# EAGLE library part TC2030_SWD (library tag-connect)
ARM20-CTX 20-Pin to TC2030-IDC Adapter for Cortex 6-Pin (TC2030-IDC family) </catalog/6> Cortex SWD </catalog/9> Adapters </adaptors> <javascript:void(0);> The Tag-Connect ARM20-CTX adapter board allows our TC2030-IDC cables to be used for ARM SWD (Single Wire Debug) applications. Although intended for use with our patented TC2030-IDC (and TC2030-IDC-NL) Plug-of-Nails™ Cables, the adapter may be useful to people wishing to use 6-pin 0.1” ribbon headers on their PCB instead of the traditional 20-Pin header. Please note the TC2030-IDC <http://tag-connect.com/TC2030-IDC> or TC2030-IDC-NL <http://tag-connect.com/TC2030-IDC-NL> cable is purchased separately, the cables and Segger JLINK seen in the pictures are not included! Download the Datasheet here. <http://www.tag-connect.com/Materials/ARM20-CTX.pdf>
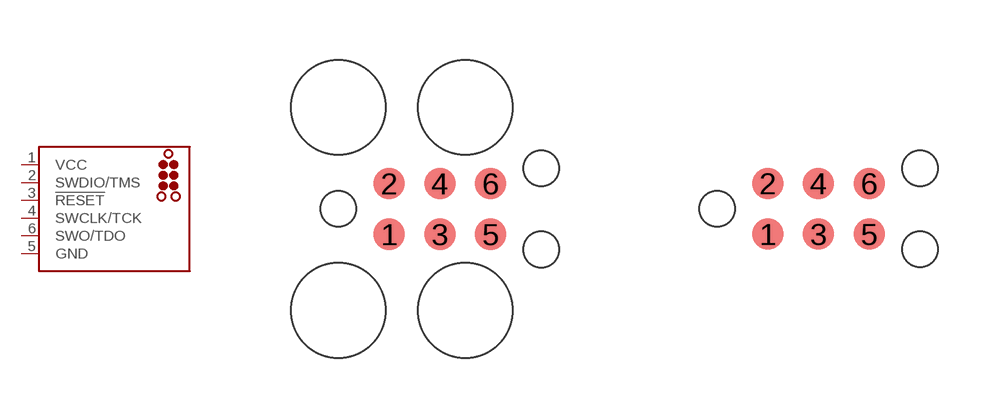
[diagram p1: symbol with the pads of TC2030-MCP; footprints TC2030-MCP, TC2030-MCP-NL]

Designator prefix J

## TC2030_SWD-MCP  [TC2030-MCP]
1  VCC  pas
2  SWDIO/TMS
3  !RESET  out
4  SWCLK/TCK  out
5  GND  pas
6  SWO/TDO

## TC2030_SWD-MCP-NL  [TC2030-MCP-NL]
Pads as for TC2030-MCP

## TC2030_SWD  [TC2030-MCP-NL-CP]
Pads as for TC2030-MCP

## Footprint TC2030-MCP (pad centres in mm)
TAG-CONNECT ICSP Connector - Legged version Manufacturer: Tag-Connect <http://www.tag-connect.com> Cable for easy In-Circuit Serial Programming. Designed for Microchip ICD2, suitable for many others. NOTE: Eagle's default spacing for drill holes does not leave sufficent room for routing traces for this footprint and should be adjusted. This setting can be found in the board layout editor under the Edit menu. Select "Design Rules" and then the Distance tab. 8 mils for Drill/Hole works well. PAD Description 1 MCLR/Vpp 2 Vdd 3 GND 4 PGD (ISPDAT) 5 PGC (ISPCLK) 6 nc (used for LVP) ©2009 ROFA.cz - modified and updated by Robert Darlington ‹rdarlington@gmail.com›
smd 0.787 x 0.787: 1 1.27,-0.635; 2 1.27,0.635; 3 2.54,-0.635; 4 2.54,0.635; 5 3.81,-0.635; 6 3.81,0.635
hole 0.889 at 0,0
hole 0.889 at 5.08,-1.016
hole 0.889 at 5.08,1.016
hole 2.375 at 0,2.54
hole 2.375 at 0,-2.54
hole 2.375 at 3.175,-2.54
hole 2.375 at 3.175,2.54

## Footprint TC2030-MCP-NL (pad centres in mm)
TAG-CONNECT ICSP Connector Manufacturer: Tag-Connect <www.tag-connect.com> Cable for easy In-Circuit Serial Programming. Designed for Microchip ICD2, suitable for many others. PAD Description 1 MCLR/Vpp 2 Vdd 3 GND 4 PGD (ISPDAT) 5 PGC (ISPCLK) 6 nc (used for LVP) ©2009 ROFA.cz - modified and updated by Robert Darlington ‹rdarlington@gmail.com›
smd 0.787 x 0.787: 1 1.27,-0.635; 2 1.27,0.635; 3 2.54,-0.635; 4 2.54,0.635; 5 3.81,-0.635; 6 3.81,0.635
hole 0.889 at 0,0
hole 0.889 at 5.08,-1.016
hole 0.889 at 5.08,1.016

## Footprint TC2030-MCP-NL-CP (pad centres in mm)
TAG-CONNECT ICSP Connector- with optional copper pads for steel alignment pins Manufacturer: Tag-Connect <http://www.tag-connect.com> Cable for easy In-Circuit Serial Programming. Designed for Microchip ICD2, suitable for many others. NOTE: Eagle's default spacing for drill holes does not leave sufficent room for routing traces for this footprint and should be adjusted. This setting can be found in the board layout editor under the Edit menu. Select "Design Rules" and then the Distance tab. 8 mils for Drill/Hole works well. PAD Description 1 MCLR/Vpp 2 Vdd 3 GND 4 PGD (ISPDAT) 5 PGC (ISPCLK) 6 nc (used for LVP) Note: Suitable Receptacle pins are 0295-0-15-xx-06-xx-10-0 series from Mill-Max <www.mill-max.com> ©2009 ROFA.cz - modified and updated by Robert Darlington ‹rdarlington@gmail.com›
smd 0.787 x 0.787: 1 1.27,-0.635; 2 1.27,0.635; 3 2.54,-0.635; 4 2.54,0.635; 5 3.81,-0.635; 6 3.81,0.635
hole 1.6 at 0,0
hole 1.6 at 5.08,1.016
hole 1.6 at 5.08,-1.016